# Altium integrated library 6-103635-0.IntLib: 1 symbol
Pins are listed as number, name and electrical type; pins without a type are passive.

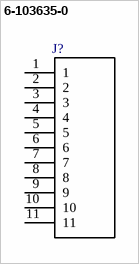
[diagram p0: symbol 6-103635-0]

## 6-103635-0
designator J?  (value not drawn)
11 MTE HDR SRRA LTCH.100CL LF; Centerline_Pitch: 2.54 mm[.1 in]; Number_of_Positions: 11; Product_Type: Connector; MF: TE Connectivity; Digi-Key_Purchase_URL: https://www.digikey.vn/product-detail/en/te-connectivity-amp-connectors/6-103635-0/A33880-ND/1122444?utm_source=snapeda&utm_medium=aggregator&utm_campaign=symbol; SnapEDA_Link: https://www.snapeda.com/parts/6-103635-0/TE%20Connectivity/view-part/1438511/?ref=snap; MP: 6-103635-0; TE_purchase_URL: https://www.te.com/usa-en/product-6-103635-0.html?te_bu=Cor&te_type=disp&te_campaign=seda_glo_cor-seda-global-disp-prtnr-fy19-seda-model-bom-cta_sma-317_1&elqCampaignId=32493; Digi-Key_Part_Number: A33880-ND; EU_RoHS_Compliance: Compliant; Package: None; Value: *
footprint *TE_6-103635-0
pins: 1, 2, 3, 4, 5, 6, 7, 8, 9, 10, 11